# Altium integrated library MT_Connector.IntLib: 40 symbols
Pins are listed as number, name and electrical type; pins without a type are passive.

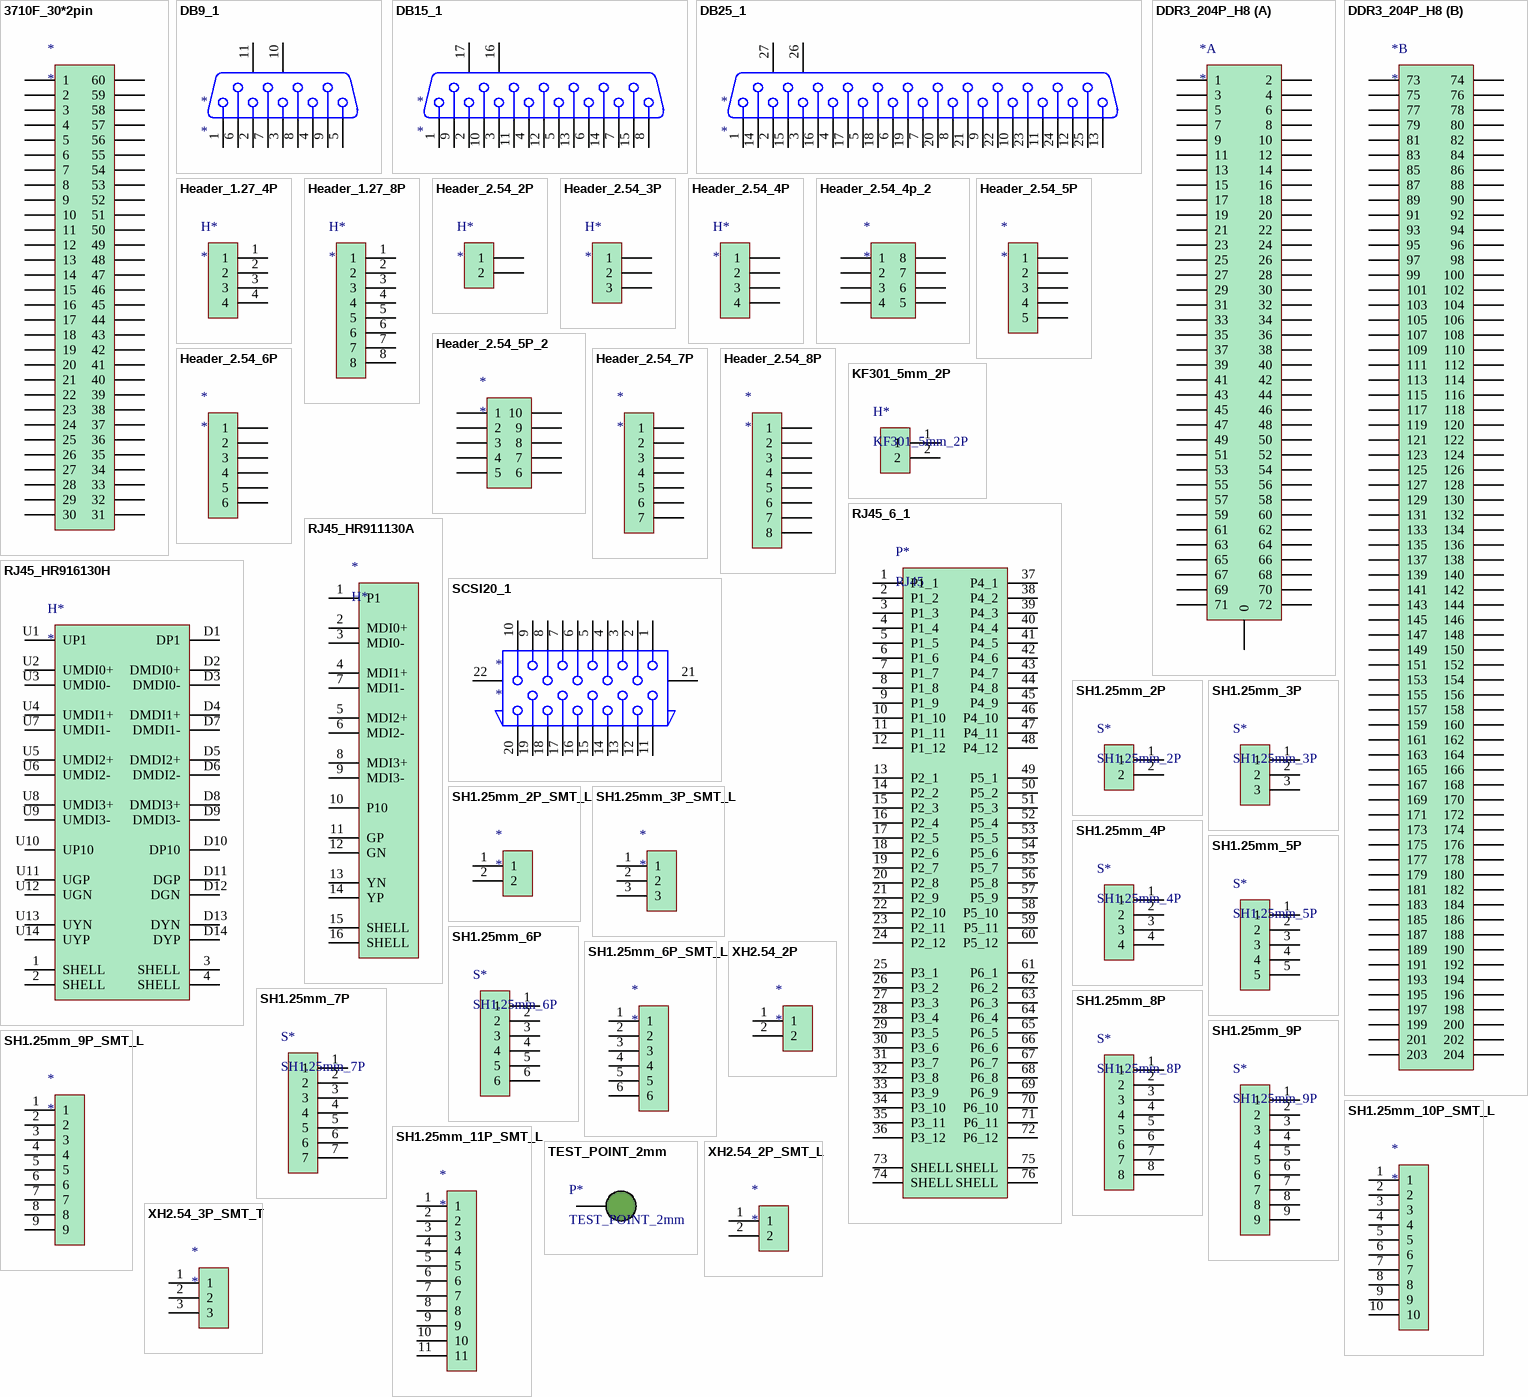
[diagram p0: symbols 3710F_30*2pin to XH2.54_3P_SMT_T]

## 3710F_30*2pin
designator *
FPC
footprint 3710F060046G3FT01
pins: 1, 2, 3, 4, 5, 6, 7, 8, 9, 10, 11, 12, 13, 14, 15, 16, 17, 18, 19, 20, 21, 22, 23, 24, 25, 26, 27, 28, 29, 30, 31, 32, 33, 34, 35, 36, 37, 38, 39, 40, 41, 42, 43, 44, 45, 46, 47, 48, 49, 50, 51, 52, 53, 54, 55, 56, 57, 58, 59, 60

## DB9_1
designator *
DB
footprint DB9_1
pins: 1, 2, 3, 4, 5, 6, 7, 8, 9, 10 MH1, 11 MH2

## DB15_1
designator *
DB
footprint DB15_1
pins: 1, 2, 3, 4, 5, 6, 7, 8, 9, 10, 11, 12, 13, 14, 15, 16 MH1, 17 MH2

## DB25_1
designator *
DB
footprint DB25_1
pins: 1, 2, 3, 4, 5, 6, 7, 8, 9, 10, 11, 12, 13, 14, 15, 16, 17, 18, 19, 20, 21, 22, 23, 24, 25, 26 MH1, 27 MH2

## DDR3_204P_H8
designator *
DDR3
footprint DDR3_204P_H8
part A pins: 0, 1, 2, 3, 4, 5, 6, 7, 8, 9, 10, 11, 12, 13, 14, 15, 16, 17, 18, 19, 20, 21, 22, 23, 24, 25, 26, 27, 28, 29, 30, 31, 32, 33, 34, 35, 36, 37, 38, 39, 40, 41, 42, 43, 44, 45, 46, 47, 48, 49, 50, 51, 52, 53, 54, 55, 56, 57, 58, 59, 60, 61, 62, 63, 64, 65, 66, 67, 68, 69, 70, 71, 72
part B pins: 73, 74, 75, 76, 77, 78, 79, 80, 81, 82, 83, 84, 85, 86, 87, 88, 89, 90, 91, 92, 93, 94, 95, 96, 97, 98, 99, 100, 101, 102, 103, 104, 105, 106, 107, 108, 109, 110, 111, 112, 113, 114, 115, 116, 117, 118, 119, 120, 121, 122, 123, 124, 125, 126, 127, 128, 129, 130, 131, 132, 133, 134, 135, 136, 137, 138, 139, 140, 141, 142, 143, 144, 145, 146, 147, 148, 149, 150, 151, 152, 153, 154, 155, 156, 157, 158, 159, 160, 161, 162, 163, 164, 165, 166, 167, 168, 169, 170, 171, 172, 173, 174, 175, 176, 177, 178, 179, 180, 181, 182, 183, 184, 185, 186, 187, 188, 189, 190, 191, 192, 193, 194, 195, 196, 197, 198, 199, 200, 201, 202, 203, 204

## Header_1.27_4P
designator H*
PinHeader 1.27
footprint HDR1.27_4P
pins: 1, 2, 3, 4

## Header_1.27_8P
designator H*
PinHeader 1.27
footprint HDR1.27_8P
pins: 1, 2, 3, 4, 5, 6, 7, 8

## Header_2.54_2P
designator H*
PinHeader 2.54
footprint HDR1_2P
pins: 1, 2

## Header_2.54_3P
designator H*
PinHeader 2.54
footprint HDR1_3P
pins: 1, 2, 3

## Header_2.54_4P
designator H*
PinHeader 2.54
footprint HDR1_4P
pins: 1, 2, 3, 4

## Header_2.54_4p_2
designator *
PinHeader 2.54
footprint HDR2_4P
pins: 1, 2, 3, 4, 5, 6, 7, 8

## Header_2.54_5P
designator *
PinHeader 2.54
footprint HDR1_5P
pins: 1, 2, 3, 4, 5

## Header_2.54_5P_2
designator *
PinHeader 2.54
footprint HDR2_5P
pins: 1, 2, 3, 4, 5, 6, 7, 8, 9, 10

## Header_2.54_6P
designator *
PinHeader 2.54
footprint HDR1_6P
pins: 1, 2, 3, 4, 5, 6

## Header_2.54_7P
designator *
PinHeader 2.54
footprint HDR1_7P
pins: 1, 2, 3, 4, 5, 6, 7

## Header_2.54_8P
designator *
PinHeader 2.54
footprint HDR1_8P
pins: 1, 2, 3, 4, 5, 6, 7, 8

## KF301_5mm_2P
designator H*
HEADER
footprint KF301_5mm_2P
pins: 1, 2

## RJ45_6_1
designator P*, comment RJ45
footprint RJ45_6_1
pins: 1 P1_1, 2 P1_2, 3 P1_3, 4 P1_4, 5 P1_5, 6 P1_6, 7 P1_7, 8 P1_8, 9 P1_9, 10 P1_10, 11 P1_11, 12 P1_12, 13 P2_1, 14 P2_2, 15 P2_3, 16 P2_4, 17 P2_5, 18 P2_6, 19 P2_7, 20 P2_8, 21 P2_9, 22 P2_10, 23 P2_11, 24 P2_12, 25 P3_1, 26 P3_2, 27 P3_3, 28 P3_4, 29 P3_5, 30 P3_6, 31 P3_7, 32 P3_8, 33 P3_9, 34 P3_10, 35 P3_11, 36 P3_12, 37 P4_1, 38 P4_2, 39 P4_3, 40 P4_4, 41 P4_5, 42 P4_6, 43 P4_7, 44 P4_8, 45 P4_9, 46 P4_10, 47 P4_11, 48 P4_12, 49 P5_1, 50 P5_2, 51 P5_3, 52 P5_4, 53 P5_5, 54 P5_6, 55 P5_7, 56 P5_8, 57 P5_9, 58 P5_10, 59 P5_11, 60 P5_12, 61 P6_1, 62 P6_2, 63 P6_3, 64 P6_4, 65 P6_5, 66 P6_6, 67 P6_7, 68 P6_8, 69 P6_9, 70 P6_10, 71 P6_11, 72 P6_12, 73 SHELL, 74 SHELL, 75 SHELL, 76 SHELL

## RJ45_HR911130A
designator *, comment H*
RJ45
footprint HR911130A
pins: 1 P1, 2 MDI0+, 3 MDI0-, 4 MDI1+, 5 MDI2+, 6 MDI2-, 7 MDI1-, 8 MDI3+, 9 MDI3-, 10 P10, 11 GP, 12 GN, 13 YN, 14 YP, 15 SHELL, 16 SHELL

## RJ45_HR916130H
designator H*
RJ45
footprint HR916130H
pins: 1 SHELL, 2 SHELL, 3 SHELL, 4 SHELL, D1 DP1, D2 DMDI0+, D3 DMDI0-, D4 DMDI1+, D5 DMDI2+, D6 DMDI2-, D7 DMDI1-, D8 DMDI3+, D9 DMDI3-, D10 DP10, D11 DGP, D12 DGN, D13 DYN, D14 DYP, U1 UP1, U2 UMDI0+, U3 UMDI0-, U4 UMDI1+, U5 UMDI2+, U6 UMDI2-, U7 UMDI1-, U8 UMDI3+, U9 UMDI3-, U10 UP10, U11 UGP, U12 UGN, U13 UYN, U14 UYP

## SCSI20_1
designator *
SCSI
footprint SCSI20_1
pins: 1, 2, 3, 4, 5, 6, 7, 8, 9, 10, 11, 12, 13, 14, 15, 16, 17, 18, 19, 20, 21 SHELL, 22 SHELL

## SH1.25mm_2P
designator S*
SH
footprint SH1.25mm_2P
pins: 1, 2

## SH1.25mm_2P_SMT_L
designator *
SH
footprint SH1.25MM_2P_SMT_L
pins: 1, 2

## SH1.25mm_3P
designator S*
SH
footprint SH1.25mm_3P
pins: 1, 2, 3

## SH1.25mm_3P_SMT_L
designator *
SH
footprint SH1.25MM_3P_SMT_L
pins: 1, 2, 3

## SH1.25mm_4P
designator S*
SH
footprint SH1.25MM_4P
pins: 1, 2, 3, 4

## SH1.25mm_5P
designator S*
SH
footprint SH1.25MM_5P
pins: 1, 2, 3, 4, 5

## SH1.25mm_6P
designator S*
SH
footprint SH1.25MM_6P
pins: 1, 2, 3, 4, 5, 6

## SH1.25mm_6P_SMT_L
designator *
SH
footprint SH1.25MM_6P_SMT_L
pins: 1, 2, 3, 4, 5, 6

## SH1.25mm_7P
designator S*
SH
footprint SH1.25MM_7P
pins: 1, 2, 3, 4, 5, 6, 7

## SH1.25mm_8P
designator S*
SH
footprint SH1.25MM_8P
pins: 1, 2, 3, 4, 5, 6, 7, 8

## SH1.25mm_9P
designator S*
SH
footprint SH1.25MM_9P
pins: 1, 2, 3, 4, 5, 6, 7, 8, 9

## SH1.25mm_9P_SMT_L
designator *
SH
footprint SH1.25MM_9P_SMT_L
pins: 1, 2, 3, 4, 5, 6, 7, 8, 9

## SH1.25mm_10P_SMT_L
designator *
SH
footprint SH1.25MM_10P_SMT_L
pins: 1, 2, 3, 4, 5, 6, 7, 8, 9, 10

## SH1.25mm_11P_SMT_L
designator *
SH
footprint SH1.25MM_11P_SMT_L
pins: 1, 2, 3, 4, 5, 6, 7, 8, 9, 10, 11

## TEST_POINT_2mm
designator P*
TestPoint
footprint TEST_POINT_2mm
pins: 1

## XH2.54_2P
designator *
XH
footprint XH2.5_2P
pins: 1, 2

## XH2.54_2P_SMT_L
designator *
XH
footprint XH2.54_2P_SMT_L
pins: 1, 2

## XH2.54_3P_SMT_T
designator *
XH
footprint XH2.54_3P_SMT_L
pins: 1, 2, 3

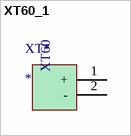
[diagram p1: symbol XT60_1]

## XT60_1
designator XT*
XT60
footprint XT60_1
pins: 1 +, 2 -